# EAGLE library part MCP4651 (library iBionics)
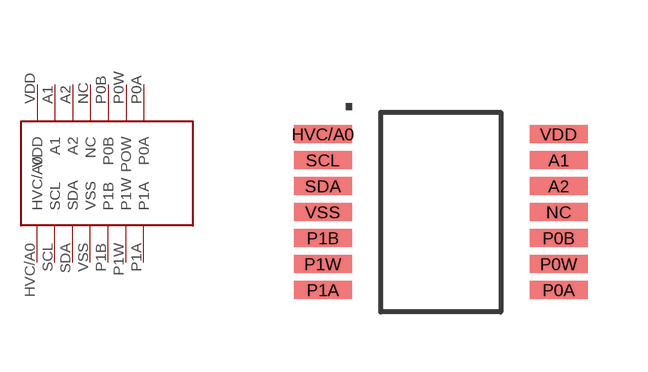
[diagram p28: symbol with the pads of MCP4651; footprint MCP4651]

Designator prefix -

## MCP4651  [MCP4651]
A1  A1
A2  A2
HVC/A0  HVC/A0
NC  NC
P0A  P0A
P0B  P0B
P0W  POW
P1A  P1A
P1B  P1B
P1W  P1W
SCL  SCL
SDA  SDA
VDD  VDD
VSS  VSS

## Footprint MCP4651 (pad centres in mm)
smd 1.45 x 0.45: A1 2.95,1.3; A2 2.95,0.65; HVC/A0 -2.95,1.95; NC 2.95,0; P0A 2.95,-1.95; P0B 2.95,-0.65; P0W 2.95,-1.3; P1A -2.95,-1.95; P1B -2.95,-0.65; P1W -2.95,-1.3; SCL -2.95,1.3; SDA -2.95,0.65; VDD 2.95,1.95; VSS -2.95,0